# Altium footprint library GL850G-PCB-Library.PcbLib: 12 footprints
Each footprint in its own frame and in the unit in brackets; x right, y up, seen from the top. Pads: shape width x height; smd on the part's side, far side on the other; paste and mask are expansions set on the pad; w line width, h text height; cw(c..) or ccw(c..) is an arc to the next point about the centre after c.
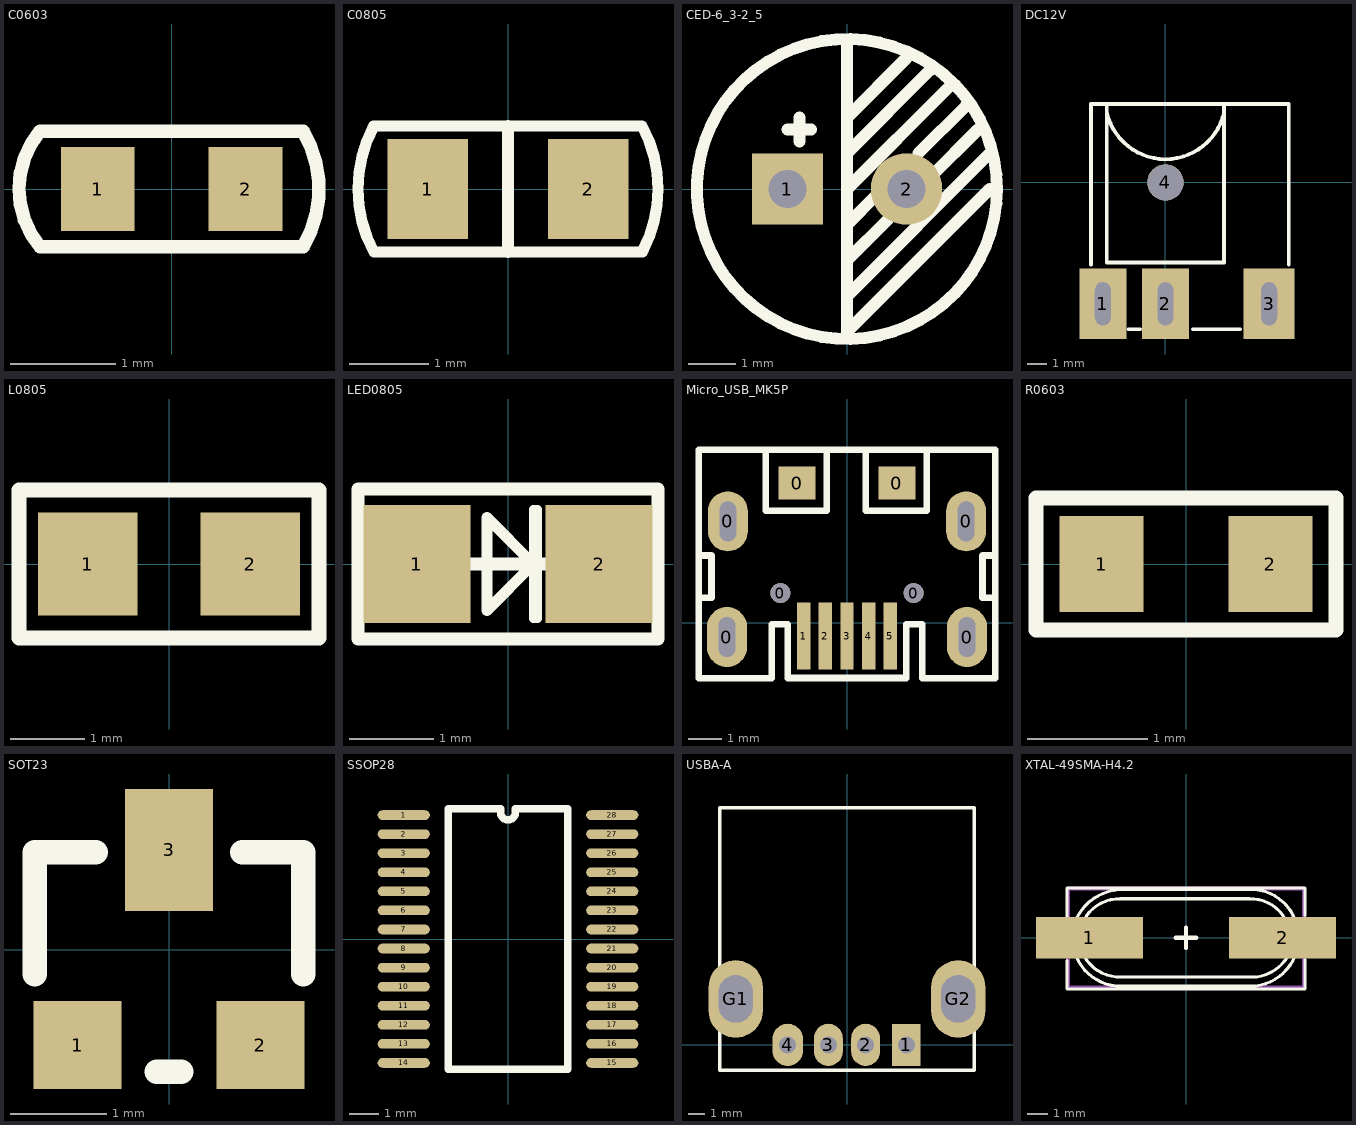
[diagram p0: the footprints below, top view; thin cyan lines are the x and y axes]

## C0603 [mm]
pads (2):
  rect 0.7x0.8 smd: 1(-0.703,0) 2(0.703,0)
Top Overlay:
  lines w0.127: -1.251,-0.549 cw(c-0.594,0) -1.25,0.55 1.25,0.55 ; -1.25,-0.55 1.25,-0.55 ; 1.249,0.551 cw(c0.325,0) 1.25,-0.549

## C0805 [mil]
pads (2):
  rect 40x50 smd mask+2.5: 1(-40,0) 2(40,0)
Top Overlay:
  lines w5.51: -66.93,-31.5 66.93,-31.5 ; -66.97,31.42 ccw(c-7.87,0) -66.91,-31.52 ; -66.93,31.5 66.93,31.5 ; 66.91,31.52 cw(c7.87,0) 66.97,-31.42
  lines w5.91: 0,-31.5 0,31.5

## CED-6_3-2_5 [mil]
pads (2):
  rect 60x60 hole 32: 1(-50,0)
  round 60 hole 32: 2(50,0)
Top Overlay:
  circle w10: c0,0 r125.98
  lines w10: -50,50 -30,50 ; -40,40 -40,60 ; 0,-90 120,30 ; 0,-60 35,-25 ; 0,-30 25,-5 ; 0,0 85,85 ; 0,30 70,100 ; 0,60 50,110 ; 0,120 0,-120 120,0 ; 60,30 100,70 ; 70,10 110,50

## DC12V [mm]
pads (4):
  rect 2.4x3.6 hole 0.8 slot 2.2 at 90 deg: 1(-3.2,-6.2) 2(0,-6.2)
  rect 2.6x3.6 hole 0.8 slot 2.2 at 90 deg: 3(5.3,-6.2)
  round 1.85 hole 1.85: 4(0,0)
Top Overlay:
  lines w0.2: -3.8,-4.2 -3.8,4 6.3,4 6.3,-4.2 ; -2.999,3.597 ccw(c0,4.256) 3,3.602 ; -1.9,-7.5 -1.3,-7.5 ; 1.4,-7.5 3.8,-7.5 ; 3,3.6 3,4 -3,4 -3,3.6 -3,-4.1 3,-4.1 3,3.8

## L0805 [mil]
pads (2):
  rect 53x55 smd: 1(-43.31,0) 2(43.31,0)
Top Overlay:
  lines w8: -80,-39.37 80,-39.37 80,39.37 -80,39.37 -80,-39.37

## LED0805 [mil]
height 55
pads (2):
  rect 50x55 smd: 1(-42.5,0) 2(42.5,0)
Top Overlay:
  lines w4: -17.72,-1 17.72,-1 17.72,1 -17.72,1 -17.72,-1 ; 11.81,-25.59 13.81,-25.59 13.81,25.59 11.81,25.59 11.81,-25.59
  lines w5: -9.84,-21.65 -9.84,21.65 11.81,0 -9.84,-21.65
  lines w6: -70,-35 70,-35 70,35 -70,35 -70,-35
Top Paste:
  lines w2: -70,-30 70,-30 70,30 -70,30 -70,-30
Top Solder:
  lines w5: -13,-25 13,-25 ; -13,25 13,25

## Micro_USB_MK5P [mm]
pads (13):
  oval 1.2x1.8 hole 0.5 slot 1.2 at 90 deg: 0(-3.6,-0.43) 0(-3.575,3.04) 0(3.575,3.04) 0(3.6,-0.43)
  round 0.6 hole 0.6 unplated: 0(-2,0.89) 0(2,0.89)
  rect 1.1x1 smd: 0(-1.5,4.19) 0(1.5,4.19)
  rect 0.4x2 smd: 1(-1.3,-0.4) 2(-0.65,-0.4) 3(0,-0.4) 4(0.65,-0.4) 5(1.3,-0.4)
Top Overlay:
  lines w0.2: -4.445,0.745 -4.064,0.745 -4.064,2.015 -4.42,2.015 ; -2.441,5.165 -2.441,3.361 -0.612,3.361 -0.612,5.19 ; 0.559,5.165 0.559,3.361 2.388,3.361 2.388,5.19 ; 4.42,2.015 4.064,2.015 4.064,0.745 4.445,0.745 ; -4.445,-1.668 -2.261,-1.668 -2.261,-0.042 -1.778,-0.042 -1.778,-1.659 1.778,-1.659 1.778,-0.042 2.261,-0.042 2.261,-1.668 4.445,-1.668 4.445,5.19 0,5.19 -4.445,5.19 -4.445,-1.668

## R0603 [mm]
pads (2):
  rect 0.7x0.8 smd: 1(-0.703,0) 2(0.703,0)
Top Overlay:
  lines w0.127: -1.25,-0.55 1.25,-0.55 1.25,0.55 -1.25,0.55 -1.25,-0.55

## SOT23 [mil]
pads (3):
  rect 36x36 smd: 1(-37.5,-39) 2(37.5,-39)
  rect 36x50 smd: 3(0,41)
Top Overlay:
  lines w10: -55,-10 -55,40 -30,40 ; -5,-50 5,-50 ; 30,40 55,40 55,-10

## SSOP28 [mil]
pads (28):
  oval 70x13 smd: 1(-140,166.4) 2(-140,140.8) 3(-140,115.2) 4(-140,89.6) 5(-140,64) 6(-140,38.4) 7(-140,12.8) 8(-140,-12.8) 9(-140,-38.4) 10(-140,-64) 11(-140,-89.6) 12(-140,-115.2) 13(-140,-140.8) 14(-140,-166.4) 15(140,-166.4) 16(140,-140.8) 17(140,-115.2) 18(140,-89.6) 19(140,-64) 20(140,-38.4) 21(140,-12.8) 22(140,12.8) 23(140,38.4) 24(140,64) 25(140,89.6) 26(140,115.2) 27(140,140.8) 28(140,166.4)
Top Overlay:
  lines w10: -80,-175 -80,175 -10,175 -10,170 ccw(c0,170) 10,170 10,175 80,175 80,-175 -80,-175

## USBA-A [mil]
pads (6):
  rect 67x98 hole 39.37: 1(137.8,0)
  oval 66.93x98.43 hole 39.37: 2(43.31,0) 3(-43.31,0)
  oval 70.87x98.43 hole 39.37: 4(-137.8,0)
  oval 125.98x180 hole 80 slot 110 at 90 deg: G1(-258.66,106.69) G2(258.66,106.69)
Top Overlay:
  lines w8: -295.28,-59.06 -295.28,551.18 295.28,551.18 295.28,-59.06 -295.28,-59.06

## XTAL-49SMA-H4.2 [mm]
height 4.2
pads (2):
  rect 5.2x2 smd: 1(-4.7,0) 2(4.7,0)
Top Overlay:
  lines w0.152: -5.8,-1.1 -5.8,-2.5 5.8,-2.5 5.8,-1.054 ; -5.8,1.025 -5.8,2.42 5.8,2.42 5.8,1.1 ; -5.349,-0.901 ccw(c-3.154,0.017) -3.399,-2.35 ; -5.35,0.9 cw(c-3.054,-0.18) -3.248,2.35 ; -4.95,-0.9 ccw(c-3.226,0.072) -3.402,-1.9 ; -4.95,0.899 cw(c-3.234,-0.072) -3.2,1.9 ; -3.4,-2.35 3.4,-2.35 ; -3.4,-1.9 3.45,-1.9 ; -3.25,2.35 3.35,2.35 ; -3.2,1.9 3.089,1.9 cw(c3.131,-0.059) 4.839,0.9 ; 3.349,2.35 cw(c3.156,0.053) 5.299,0.902 ; 3.402,-2.35 ccw(c3.095,0.02) 5.301,-0.898 ; 3.448,-1.9 ccw(c3.177,0.135) 4.949,-0.901
  lines w0.203: -0.5,0 0.5,0 ; 0,-0.5 0,0.5
Mechanical 1:
  lines w0.203: -5.75,-2.42 -5.75,2.4 5.75,2.4 5.75,-2.42 -5.75,-2.42